# EAGLE library part CAP1203-1-SN (library CAP1203-1-SN)
CAP1203-1-SN Microchip Technology, CAP1203 Capacitive Touch Sensor Capacitive 8-Pin SOIC Source: Datasheet <http://www.microchip.com/mymicrochip/filehandler.aspx?ddocname=en566286>
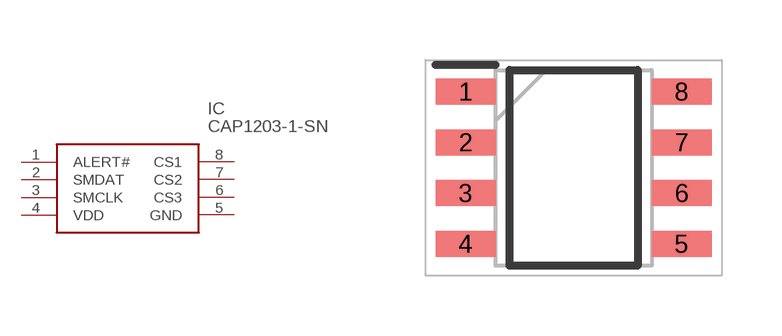
[diagram p0: symbol with the pads of SOIC127P600X175-8N; footprint SOIC127P600X175-8N]

Designator prefix IC

## CAP1203-1-SN (Description: CAP1203-1-SN Microchip Technology, CAP1203 Capacitive Touch Sensor Capacitive 8-Pin SOIC; Height: 1.75mm; Manufacturer_Name: Microchip; Manufacturer_Part_Number: CAP1203-1-SN; Mouser_Part_Number: 579-CAP1203-1-SN; Mouser_Price-Stock: https://www.mouser.co.uk/ProductDetail/Microchip-Technology/CAP1203-1-SN?qs=ZEMkBHnybRFgBmrULrHmuQ%3D%3D)  [SOIC127P600X175-8N]
1  ALERT#
2  SMDAT
3  SMCLK
4  VDD
5  GND
6  CS3
7  CS2
8  CS1

## Footprint SOIC127P600X175-8N (pad centres in mm)
(SOIC)
smd 1.5 x 0.65: 1 -2.7,1.905; 2 -2.7,0.635; 3 -2.7,-0.635; 4 -2.7,-1.905; 5 2.7,-1.905; 6 2.7,-0.635; 7 2.7,0.635; 8 2.7,1.905